# Altium schematic symbol library 4.9 - 接插件-脚距1.00.SchLib: 16 symbols
Pins are listed as number, name and electrical type; pins without a type are passive.

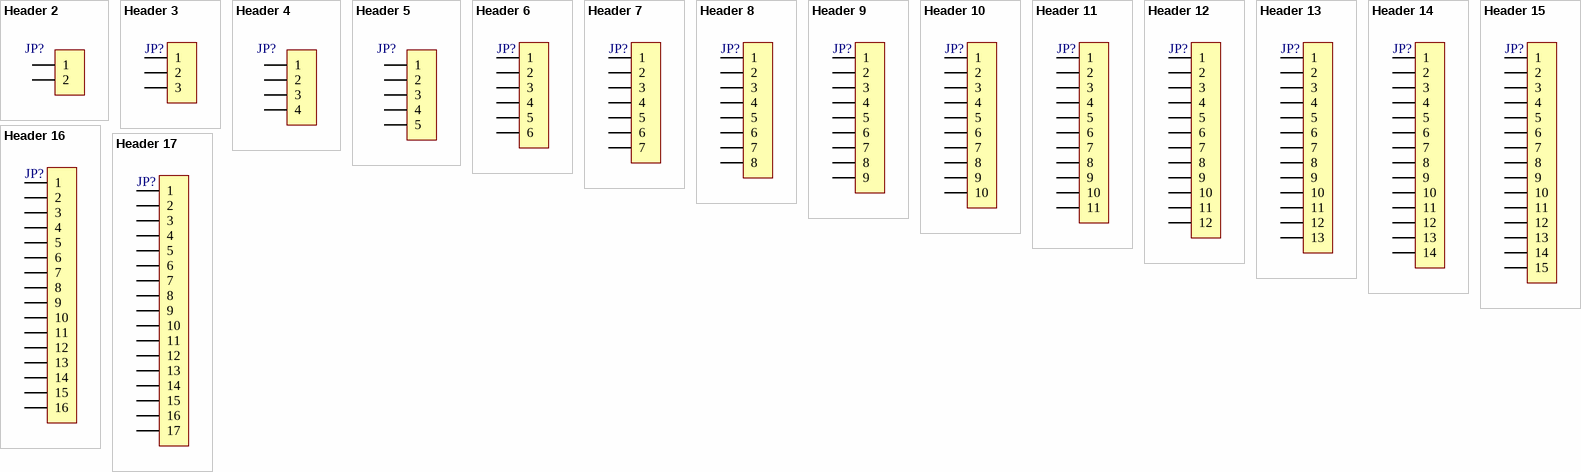
[diagram p0: symbols Header 2 to Header 17]

## Header 2
designator JP?, comment HDR-1X2  (value not drawn)
2P接插件; 版权归属: 封装库来自淘宝 ID：黄晶宝石; 技术支持，联系售后: 封装库来自淘宝卖家 ID：黄晶宝石; BOM名称: 2P接插件; 联系售后: https://shop463601444.taobao.com
footprint FPC1.0-2H-WS-2P (封装库来自淘宝卖家 ID：黄晶宝石)
pins: 1, 2

## Header 3
designator JP?, comment HDR-1X3  (value not drawn)
3P接插件; 联系售后: 封装库来自淘宝 ID：黄晶宝石; BOM名称: 3P接插件; 学习资源: https://shop463601444.taobao.com
footprint FPC1.0-2H-WS-3P (翻盖FPC，脚距1mm，不含脚（长7.9mm，宽5.2mm，高1.96mm） 淘宝ID:黄晶宝石   店铺网址:https://shop463601444.taobao.com)
pins: 1, 2, 3

## Header 4
designator JP?, comment HDR-1X4  (value not drawn)
4P接插件; 联系售后: 封装库来自淘宝 ID：黄晶宝石; BOM名称: 4P接插件; 学习资源: https://shop463601444.taobao.com
footprint FPC1.0-2H-WS-4P (翻盖FPC，脚距1mm，不含脚（长8.9mm，宽5.2mm，高1.96mm）淘宝ID:黄晶宝石   店铺网址:https://shop463601444.taobao.com)
pins: 1, 2, 3, 4

## Header 5
designator JP?, comment HDR-1X5  (value not drawn)
5P接插件; 学习资源: 封装库来自淘宝 ID：黄晶宝石; BOM名称: 5P接插件; 联系售后: https://shop463601444.taobao.com
footprint FPC1.0-2H-WS-5P (翻盖FPC，脚距1mm，不含脚（长9.9mm，宽5.2mm，高1.96mm） 淘宝ID:黄晶宝石   店铺网址:https://shop463601444.taobao.com)
pins: 1, 2, 3, 4, 5

## Header 6
designator JP?, comment HDR-1X6  (value not drawn)
6P接插件; 版权归属: 封装库来自淘宝 ID：黄晶宝石; BOM名称: 6P接插件; 学习资源: https://shop463601444.taobao.com
footprint FPC1.0-2H-WS-6P (翻盖FPC，脚距1mm，不含脚（长10.9mm，宽5.2mm，高1.96mm） 淘宝ID:黄晶宝石   店铺网址:https://shop463601444.taobao.com)
pins: 1, 2, 3, 4, 5, 6

## Header 7
designator JP?, comment HDR-1X7  (value not drawn)
7P接插件; 版权归属: 封装库来自淘宝 ID：黄晶宝石; BOM名称: 7P接插件; 学习资源: https://shop463601444.taobao.com
footprint FPC1.0-2H-WS-7P (翻盖FPC，脚距1mm，不含脚（长11.9mm，宽5.2mm，高1.96mm）淘宝ID:黄晶宝石   店铺网址:https://shop463601444.taobao.com)
pins: 1, 2, 3, 4, 5, 6, 7

## Header 8
designator JP?, comment HDR-1X8  (value not drawn)
8P接插件; 版权归属: 封装库来自淘宝 ID：黄晶宝石; BOM名称: 8P接插件; 学习资源: https://shop463601444.taobao.com
footprint FPC1.0-2H-WS-8P (翻盖FPC，脚距1mm，不含脚（长12.9mm，宽5.2mm，高1.96mm） 淘宝ID:黄晶宝石   店铺网址:https://shop463601444.taobao.com)
pins: 1, 2, 3, 4, 5, 6, 7, 8

## Header 9
designator JP?, comment HDR-1X9  (value not drawn)
9P接插件; 学习资源: 封装库来自淘宝卖家 ID：黄晶宝石; 版权归属: 淘宝ID:黄晶宝石; BOM名称: 9P接插件
footprint FPC1.0-2H-WS-9P (翻盖FPC，脚距1mm，不含脚（长13.9mm，宽5.2mm，高1.96mm） 淘宝ID:黄晶宝石   店铺网址:https://shop463601444.taobao.com)
pins: 1, 2, 3, 4, 5, 6, 7, 8, 9

## Header 10
designator JP?, comment HDR-1X10  (value not drawn)
10P接插件; 版权归属: 封装库来自淘宝 ID：黄晶宝石; BOM名称: 10P接插件; 学习资源: https://shop463601444.taobao.com
footprint FPC1.0-2H-WS-10P (翻盖FPC，脚距1mm，不含脚（长14.9mm，宽5.2mm，高1.96mm） 淘宝ID:黄晶宝石   店铺网址:https://shop463601444.taobao.com)
pins: 1, 2, 3, 4, 5, 6, 7, 8, 9, 10

## Header 11
designator JP?, comment HDR-1X11  (value not drawn)
11P接插件; 版权归属: 淘宝ID:黄晶宝石; BOM名称: 11P接插件; 学习资源: https://shop463601444.taobao.com
footprint FPC1.0-2H-WS-11P (翻盖FPC，脚距1mm，不含脚（长15.9mm，宽5.2mm，高1.96mm） 淘宝ID:黄晶宝石   店铺网址:https://shop463601444.taobao.com)
pins: 1, 2, 3, 4, 5, 6, 7, 8, 9, 10, 11

## Header 12
designator JP?, comment HDR-1X12  (value not drawn)
12P接插件; 版权归属: 淘宝ID:黄晶宝石; BOM名称: 12P接插件; 学习资源: https://shop463601444.taobao.com
footprint FPC1.0-2H-WS-12P (翻盖FPC，脚距1mm，不含脚（长16.9mm，宽5.2mm，高1.96mm） 淘宝ID:黄晶宝石   店铺网址:https://shop463601444.taobao.com)
pins: 1, 2, 3, 4, 5, 6, 7, 8, 9, 10, 11, 12

## Header 13
designator JP?, comment HDR-1X13  (value not drawn)
13P接插件; 版权归属: 封装库来自淘宝 ID：黄晶宝石; BOM名称: 13P接插件; 学习资源: https://shop463601444.taobao.com
footprint FPC1.0-2H-WS-13P (翻盖FPC，脚距1mm，不含脚（长17.9mm，宽5.2mm，高1.96mm） 淘宝ID:黄晶宝石   店铺网址:https://shop463601444.taobao.com)
pins: 1, 2, 3, 4, 5, 6, 7, 8, 9, 10, 11, 12, 13

## Header 14
designator JP?, comment HDR-1X14  (value not drawn)
14P接插件; 版权归属: 源创客; BOM名称: 14P接插件; 学习资源: https://shop463601444.taobao.com
footprint FPC1.0-2H-WS-14P (翻盖FPC，脚距1mm，不含脚（长18.9mm，宽5.2mm，高1.96mm） 淘宝ID:黄晶宝石   店铺网址:https://shop463601444.taobao.com)
pins: 1, 2, 3, 4, 5, 6, 7, 8, 9, 10, 11, 12, 13, 14

## Header 15
designator JP?, comment HDR-1X15  (value not drawn)
15P接插件; 版权归属: 封装库来自淘宝 ID：黄晶宝石; BOM名称: 15P接插件; 学习资源: https://shop463601444.taobao.com
footprint FPC1.0-2H-WS-15P (翻盖FPC，脚距1mm，不含脚（长19.9mm，宽5.2mm，高1.96mm）淘宝ID:黄晶宝石   店铺网址:https://shop463601444.taobao.com)
pins: 1, 2, 3, 4, 5, 6, 7, 8, 9, 10, 11, 12, 13, 14, 15

## Header 16
designator JP?, comment HDR-1X16  (value not drawn)
16P接插件; 版权归属: 封装库来自淘宝 ID：黄晶宝石; BOM名称: 16P接插件; 学习资源: https://shop463601444.taobao.com
footprint FPC0.5 2H-WS-16P (长：12.2mm，宽：5.2mm，高：2mm 淘宝ID:黄晶宝石   店铺网址:https://shop463601444.taobao.com)
pins: 1, 2, 3, 4, 5, 6, 7, 8, 9, 10, 11, 12, 13, 14, 15, 16

## Header 17
designator JP?, comment HDR-1X17  (value not drawn)
17P接插件; 版权归属: 封装库来自淘宝 ID：黄晶宝石; BOM名称: 17P接插件; 学习资源: https://shop463601444.taobao.com
footprint FPC1.0-2H-WS-17P (翻盖FPC，脚距1mm，不含脚（长21.9mm，宽5.2mm，高1.96mm） 淘宝ID:黄晶宝石   店铺网址:https://shop463601444.taobao.com)
pins: 1, 2, 3, 4, 5, 6, 7, 8, 9, 10, 11, 12, 13, 14, 15, 16, 17